# Altium footprint library PcbLib1.PcbLib: 2 footprints
Each footprint in its own frame and in the unit in brackets; x right, y up, seen from the top. Pads: shape width x height; smd on the part's side, far side on the other; paste and mask are expansions set on the pad; w line width, h text height; cw(c..) or ccw(c..) is an arc to the next point about the centre after c.
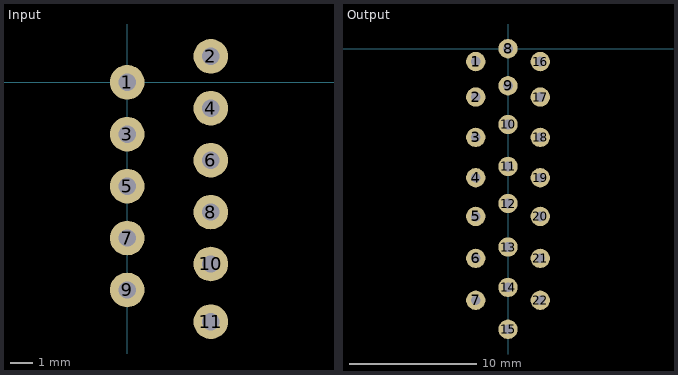
[diagram p0: the footprints below, top view; thin cyan lines are the x and y axes]

## Input [mil]
pads (11):
  round 60 hole 30: 1(0,0) 2(145,45) 3(0,-90) 4(145,-45) 5(0,-180) 6(145,-135) 7(0,-270) 8(145,-225) 9(0,-360) 10(145,-315) 11(145,-415)

## Output [mil]
pads (22):
  round 60 hole 30: 1(-100,-40) 2(-100,-150) 3(-100,-275) 4(-100,-400) 5(-100,-520) 6(-100,-650) 7(-100,-780) 8(0,0) 9(0,-115) 10(0,-235) 11(0,-365) 12(0,-480) 13(0,-615) 14(0,-740) 15(0,-870) 16(100,-40) 17(100,-150) 18(100,-275) 19(100,-400) 20(100,-520) 21(100,-650) 22(100,-780)